# EAGLE library part MINI_USB (library connectors)
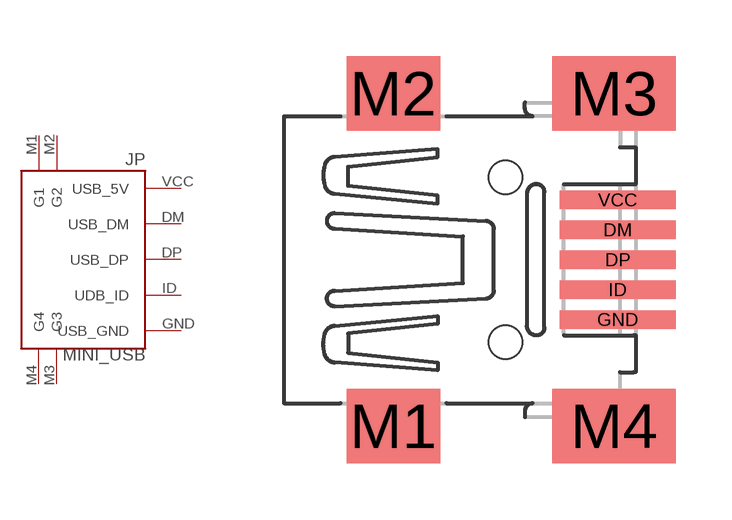
[diagram p0: symbol with the pads of 32005-201; footprint 32005-201]

Designator prefix JP

## MINI_USB.  [32005-201]
DM  USB_DM
DP  USB_DP
GND  USB_GND  pwr
ID  UDB_ID
M1  G1
M2  G2
M3  G3
M4  G4
VCC  USB_5V  pwr

## Footprint 32005-201 (pad centres in mm)
MINI USB-B R/A SMT W/ REAR Source: http://www.cypressindustries.com/pdf/32005-201.pdf
smd 3.1 x 0.5: DM 3,0.8; DP 3,0; GND 3,-1.6; ID 3,-0.8; VCC 3,1.6
smd 2.5 x 2: M1 -3,-4.45; M2 -3,4.45
smd 3.3 x 2: M3 2.9,4.45; M4 2.9,-4.45
hole 0.9 at 0,2.2
hole 0.9 at 0,-2.2